# EAGLE library part BME280 (library bme280)
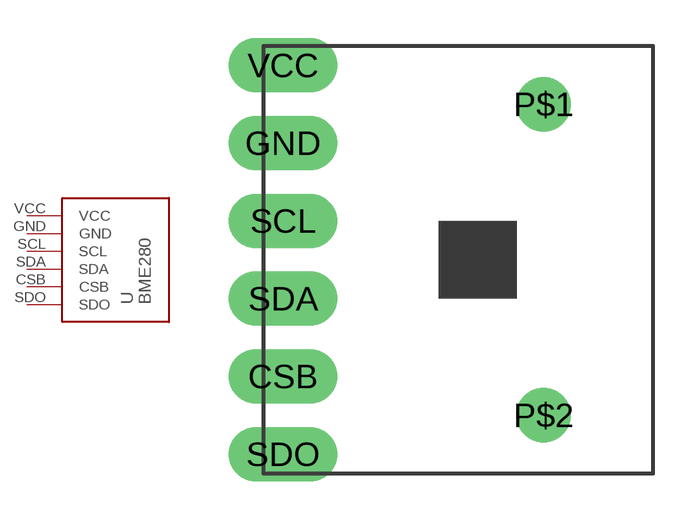
[diagram p0: symbol with the pads of BME280; footprint BME280]

Designator prefix -

## BME280  [BME280]
CSB  CSB
GND  GND
SCL  SCL
SDA  SDA
SDO  SDO
VCC  VCC

## Footprint BME280 (pad centres in mm)
drill 0.8 pad 1.778 long: CSB 0,2.54; GND 0,10.16; SCL 0,7.62; SDA 0,5.08; SDO 0,0; VCC 0,12.7
drill 0.8 pad 1.778: P$1 8.5,11.43; P$2 8.5,1.27